# Altium schematic symbol library TSW-106-05-L-S.SchLib: 1 symbol
Pins are listed as number, name and electrical type; pins without a type are passive.

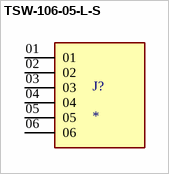
[diagram p0: symbol TSW-106-05-L-S]

## TSW-106-05-L-S
designator J?
MF: {'manufacturer': u'Samtec'}; MP: TSW-106-05-L-S; Price: None; Package: None; Value: *; Availability: Unavailable
footprint SAMTEC_TSW-106-05-L-S
pins: 01, 02, 03, 04, 05, 06